# Altium schematic symbol library 19-Resistors 电阻.SchLib: 77 symbols
Pins are listed as number, name and electrical type; pins without a type are passive.

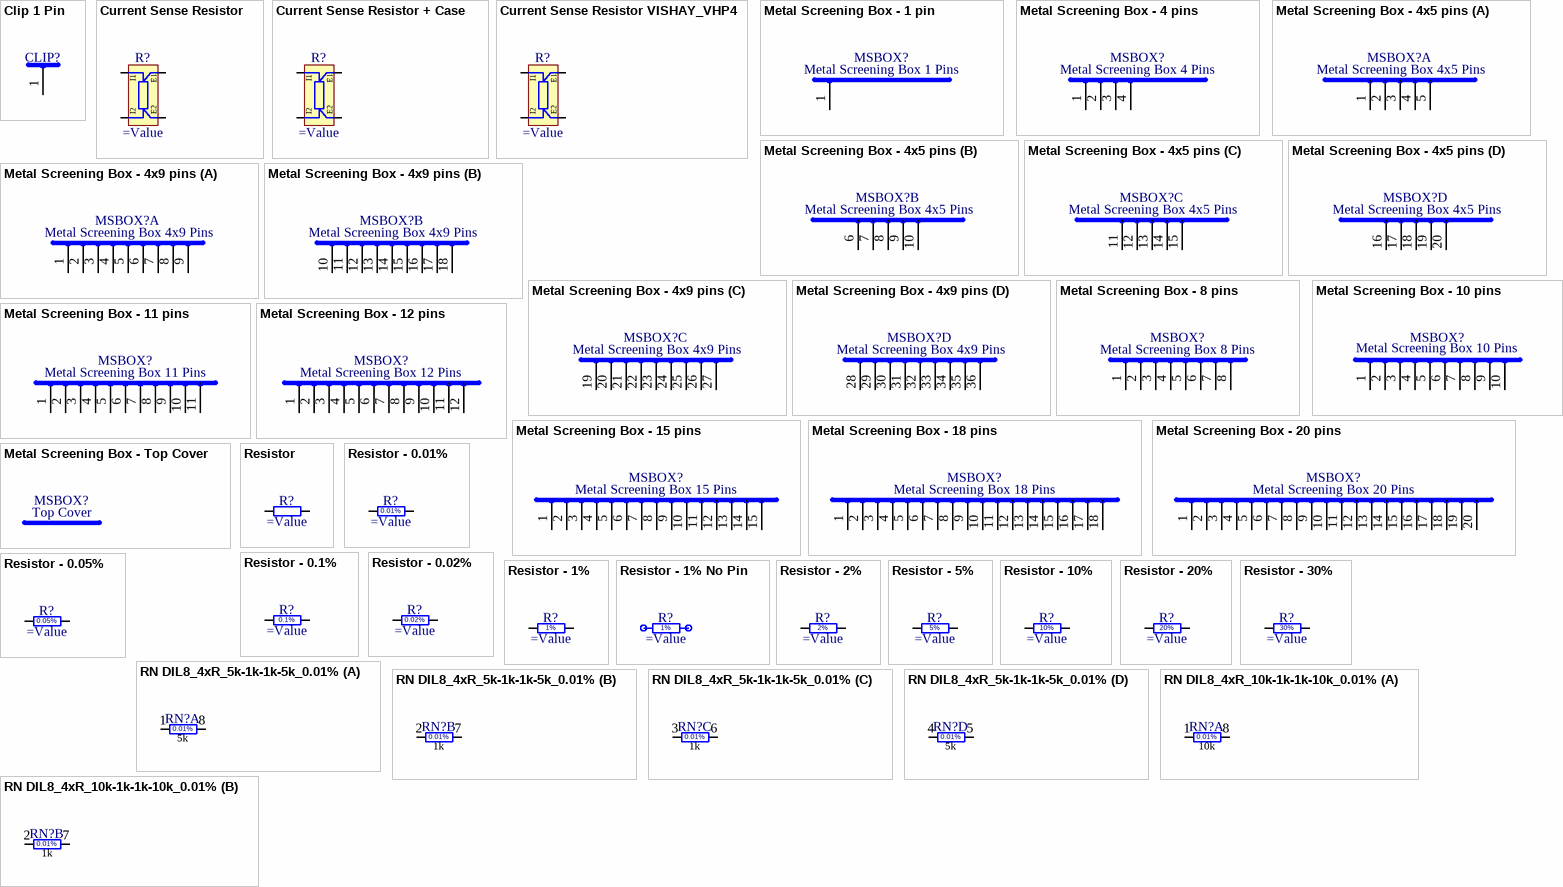
[diagram p0: symbols Clip 1 Pin to RN DIL8_4xR_10k-1k-1k-10k_0.01%]

## Clip 1 Pin
designator CLIP?  (value not drawn)
Surface Mount Clip for PCB Screening Covers
pins: 1

## Current Sense Resistor
designator R?
Power and Current Sensing Resistor
pins: E1, E2, I1, I2

## Current Sense Resistor + Case
designator R?
Power and Current Sensing Resistor
pins: 1 CASE hidden, E1, E2, I1, I2

## Current Sense Resistor VISHAY_VHP4
designator R?
Power and Current Sensing Resistor - 0.1%
pins: E1, E2, I1, I2

## Metal Screening Box - 1 pin
designator MSBOX?, comment Metal Screening Box 1 Pins
Metal Screening Box 1 Pin
pins: 1

## Metal Screening Box - 4 pins
designator MSBOX?, comment Metal Screening Box 4 Pins
pins: 1, 2, 3, 4

## Metal Screening Box - 4x5 pins
designator MSBOX?, comment Metal Screening Box 4x5 Pins
Metal Screening Box 20 (4x5) Pins
part A pins: 1, 2, 3, 4, 5
part B pins: 6, 7, 8, 9, 10
part C pins: 11, 12, 13, 14, 15
part D pins: 16, 17, 18, 19, 20

## Metal Screening Box - 4x9 pins
designator MSBOX?, comment Metal Screening Box 4x9 Pins
Metal Screening Box 36 (4x9) Pins
part A pins: 1, 2, 3, 4, 5, 6, 7, 8, 9
part B pins: 10, 11, 12, 13, 14, 15, 16, 17, 18
part C pins: 19, 20, 21, 22, 23, 24, 25, 26, 27
part D pins: 28, 29, 30, 31, 32, 33, 34, 35, 36

## Metal Screening Box - 8 pins
designator MSBOX?, comment Metal Screening Box 8 Pins
pins: 1, 2, 3, 4, 5, 6, 7, 8

## Metal Screening Box - 10 pins
designator MSBOX?, comment Metal Screening Box 10 Pins
pins: 1, 2, 3, 4, 5, 6, 7, 8, 9, 10

## Metal Screening Box - 11 pins
designator MSBOX?, comment Metal Screening Box 11 Pins
pins: 1, 2, 3, 4, 5, 6, 7, 8, 9, 10, 11

## Metal Screening Box - 12 pins
designator MSBOX?, comment Metal Screening Box 12 Pins
pins: 1, 2, 3, 4, 5, 6, 7, 8, 9, 10, 11, 12

## Metal Screening Box - 15 pins
designator MSBOX?, comment Metal Screening Box 15 Pins
pins: 1, 2, 3, 4, 5, 6, 7, 8, 9, 10, 11, 12, 13, 14, 15

## Metal Screening Box - 18 pins
designator MSBOX?, comment Metal Screening Box 18 Pins
pins: 1, 2, 3, 4, 5, 6, 7, 8, 9, 10, 11, 12, 13, 14, 15, 16, 17, 18

## Metal Screening Box - 20 pins
designator MSBOX?, comment Metal Screening Box 20 Pins
pins: 1, 2, 3, 4, 5, 6, 7, 8, 9, 10, 11, 12, 13, 14, 15, 16, 17, 18, 19, 20

## Metal Screening Box - Top Cover
designator MSBOX?, comment Top Cover
Metal Screening Box - Top Cover 0 Pin

## Resistor
designator R?
Resistor
pins: 1, 2

## Resistor - 0.01%
designator R?
Resistor - 0.01%
pins: 1, 2
text: 0.01%

## Resistor - 0.1%
designator R?
Resistor - 0.1%
pins: 1, 2
text: 0.1%

## Resistor - 0.02%
designator R?
Resistor - 0.02%
pins: 1, 2
text: 0.02%

## Resistor - 0.05%
designator R?
Resistor - 0.05%
pins: 1, 2
text: 0.05%

## Resistor - 1%
designator R?
Resistor - 1%
pins: 1, 2
text: 1%

## Resistor - 1% No Pin
designator R?
Resistor - 1% No Pin
text: 1%

## Resistor - 2%
designator R?
Resistor - 2%
pins: 1, 2
text: 2%

## Resistor - 5%
designator R?
Resistor - 5%
pins: 1, 2
text: 5%

## Resistor - 10%
designator R?
Resistor - 10%
pins: 1, 2
text: 10%

## Resistor - 20%
designator R?
Resistor - 20%
pins: 1, 2
text: 20%

## Resistor - 30%
designator R?
Resistor - 30%
pins: 1, 2
text: 30%

## RN DIL8_4xR_5k-1k-1k-5k_0.01%
designator RN?
DIL8 Resistor Network 4 Resistors 5k-1k-1k-5k 0.01%
part A pins: 1, 8
part B pins: 2, 7
part C pins: 3, 6
part D pins: 4, 5
part A text: 0.01%; 5k
part B text: 0.01%; 1k
part C text: 0.01%; 1k
part D text: 0.01%; 5k

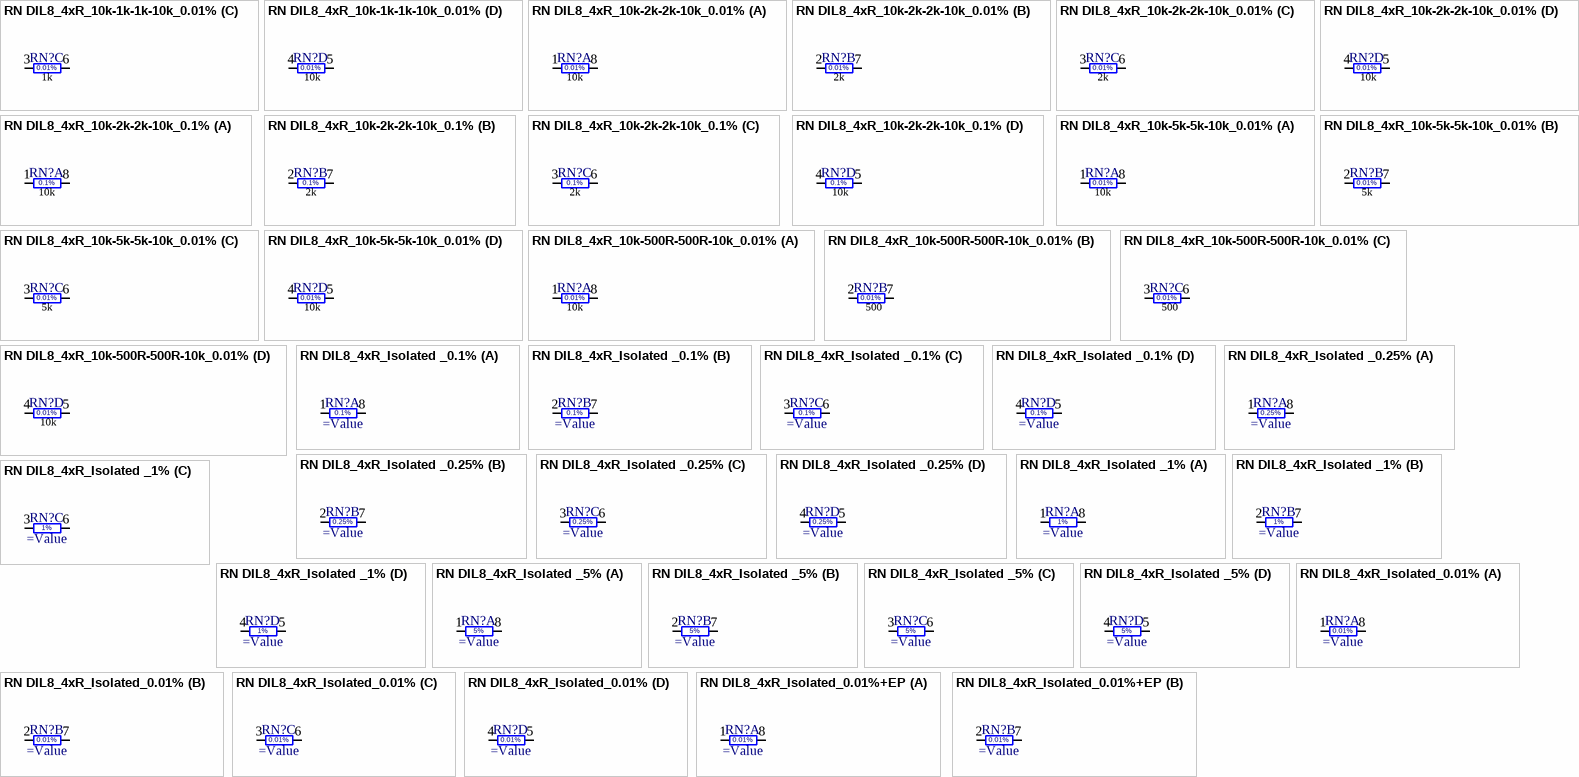
[diagram p1: symbols RN DIL8_4xR_10k-1k-1k-10k_0.01% to RN DIL8_4xR_Isolated_0.01%+EP]

## RN DIL8_4xR_10k-1k-1k-10k_0.01%
designator RN?
DIL8 Resistor Network 4 Resistors 4xR 10k-1k-1k-10k 0.01%
part A pins: 1, 8
part B pins: 2, 7
part C pins: 3, 6
part D pins: 4, 5
part A text: 0.01%; 10k
part B text: 0.01%; 1k
part C text: 0.01%; 1k
part D text: 0.01%; 10k

## RN DIL8_4xR_10k-2k-2k-10k_0.01%
designator RN?
DIL8 Resistor Network 4 Resistors 10k-2k-2k-10k 0.01%
part A pins: 1, 8
part B pins: 2, 7
part C pins: 3, 6
part D pins: 4, 5
part A text: 0.01%; 10k
part B text: 0.01%; 2k
part C text: 0.01%; 2k
part D text: 0.01%; 10k

## RN DIL8_4xR_10k-2k-2k-10k_0.1%
designator RN?
DIL8 Resistor Network 4 Resistors 10k-2k-2k-10k 0.1%
part A pins: 1, 8
part B pins: 2, 7
part C pins: 3, 6
part D pins: 4, 5
part A text: 0.1%; 10k
part B text: 0.1%; 2k
part C text: 0.1%; 2k
part D text: 0.1%; 10k

## RN DIL8_4xR_10k-5k-5k-10k_0.01%
designator RN?
DIL8 Resistor Network 4 Resistors 10k-5k-5k-10k 0.01%
part A pins: 1, 8
part B pins: 2, 7
part C pins: 3, 6
part D pins: 4, 5
part A text: 0.01%; 10k
part B text: 0.01%; 5k
part C text: 0.01%; 5k
part D text: 0.01%; 10k

## RN DIL8_4xR_10k-500R-500R-10k_0.01%
designator RN?
DIL8 Resistor Network 4 Resistors 10k-500R-500R-10k 0.01%
part A pins: 1, 8
part B pins: 2, 7
part C pins: 3, 6
part D pins: 4, 5
part A text: 0.01%; 10k
part B text: 0.01%; 500
part C text: 0.01%; 500
part D text: 0.01%; 10k

## RN DIL8_4xR_Isolated _0.1%
designator RN?
DIL8 Resistor Network 4 Isolated Resistor 0.1%
part A pins: 1, 8
part B pins: 2, 7
part C pins: 3, 6
part D pins: 4, 5
part A text: 0.1%
part B text: 0.1%
part C text: 0.1%
part D text: 0.1%

## RN DIL8_4xR_Isolated _0.25%
designator RN?
DIL8 Resistor Network 4 Isolated Resistor 0.25%
part A pins: 1, 8
part B pins: 2, 7
part C pins: 3, 6
part D pins: 4, 5
part A text: 0.25%
part B text: 0.25%
part C text: 0.25%
part D text: 0.25%

## RN DIL8_4xR_Isolated _1%
designator RN?
DIL8 Resistor Network 4 Isolated Resistor 1%
part A pins: 1, 8
part B pins: 2, 7
part C pins: 3, 6
part D pins: 4, 5
part A text: 1%
part B text: 1%
part C text: 1%
part D text: 1%

## RN DIL8_4xR_Isolated _5%
designator RN?
DIL8 Resistor Network 4 Isolated Resistor 5%
part A pins: 1, 8
part B pins: 2, 7
part C pins: 3, 6
part D pins: 4, 5
part A text: 5%
part B text: 5%
part C text: 5%
part D text: 5%

## RN DIL8_4xR_Isolated_0.01%
designator RN?
DIL8 Resistor Network 4 Isolated Resistor 0.01%
part A pins: 1, 8
part B pins: 2, 7
part C pins: 3, 6
part D pins: 4, 5
part A text: 0.01%
part B text: 0.01%
part C text: 0.01%
part D text: 0.01%

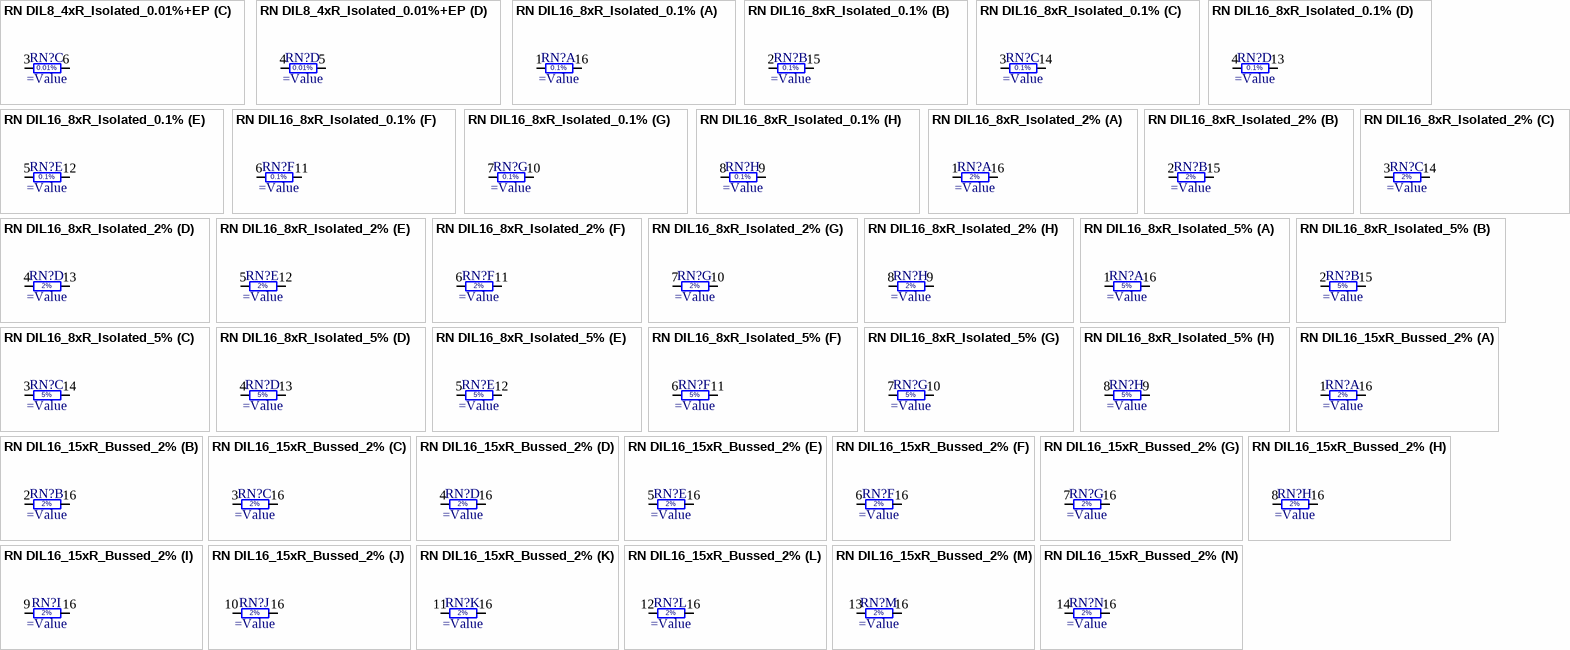
[diagram p2: symbols RN DIL8_4xR_Isolated_0.01%+EP to RN DIL16_15xR_Bussed_2%]

## RN DIL8_4xR_Isolated_0.01%+EP
designator RN?
DIL8 Resistor Network 4 Isolated Resistor 0.01% + Exposed Pad
pins on every part: 9 EP (power) hidden to GND "Exposed Pad"
part A pins: 1, 8
part B pins: 2, 7
part C pins: 3, 6
part D pins: 4, 5
part A text: 0.01%
part B text: 0.01%
part C text: 0.01%
part D text: 0.01%

## RN DIL16_8xR_Isolated_0.1%
designator RN?
DIL16 Resistor Network 8 Isolated Resistor 0.1%
part A pins: 1, 16
part B pins: 2, 15
part C pins: 3, 14
part D pins: 4, 13
part E pins: 5, 12
part F pins: 6, 11
part G pins: 7, 10
part H pins: 8, 9
part A text: 0.1%
part B text: 0.1%
part C text: 0.1%
part D text: 0.1%
part E text: 0.1%
part F text: 0.1%
part G text: 0.1%
part H text: 0.1%

## RN DIL16_8xR_Isolated_2%
designator RN?
DIL16 Resistor Network 8 Isolated Resistor 2%
part A pins: 1, 16
part B pins: 2, 15
part C pins: 3, 14
part D pins: 4, 13
part E pins: 5, 12
part F pins: 6, 11
part G pins: 7, 10
part H pins: 8, 9
part A text: 2%
part B text: 2%
part C text: 2%
part D text: 2%
part E text: 2%
part F text: 2%
part G text: 2%
part H text: 2%

## RN DIL16_8xR_Isolated_5%
designator RN?
DIL16 Resistor Network 8 Isolated Resistor 5%
part A pins: 1, 16
part B pins: 2, 15
part C pins: 3, 14
part D pins: 4, 13
part E pins: 5, 12
part F pins: 6, 11
part G pins: 7, 10
part H pins: 8, 9
part A text: 5%
part B text: 5%
part C text: 5%
part D text: 5%
part E text: 5%
part F text: 5%
part G text: 5%
part H text: 5%

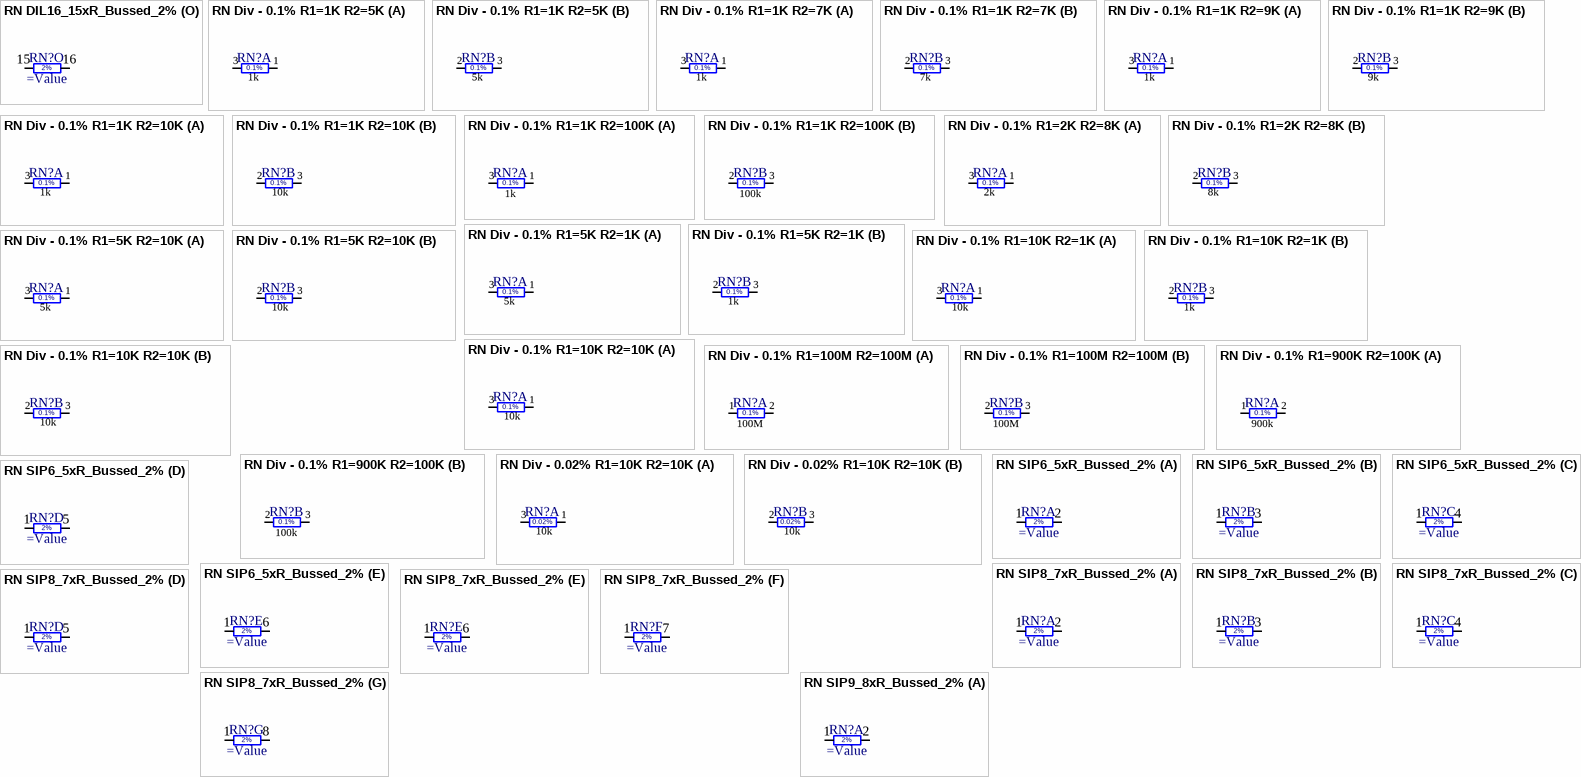
[diagram p3: symbols RN DIL16_15xR_Bussed_2% to RN SIP9_8xR_Bussed_2%]

## RN DIL16_15xR_Bussed_2%
designator RN?
DIL16 Resistor Network 15 Bussed Resistor 2%
pins on every part: 16
part A pins: 1
part B pins: 2
part C pins: 3
part D pins: 4
part E pins: 5
part F pins: 6
part G pins: 7
part H pins: 8
part I pins: 9
part J pins: 10
part K pins: 11
part L pins: 12
part M pins: 13
part N pins: 14
part O pins: 15
part A text: 2%
part B text: 2%
part C text: 2%
part D text: 2%
part E text: 2%
part F text: 2%
part G text: 2%
part H text: 2%
part I text: 2%
part J text: 2%
part K text: 2%
part L text: 2%
part M text: 2%
part N text: 2%
part O text: 2%

## RN Div - 0.1% R1=1K R2=5K
designator RN?
Resistor Network Divider - 0.1%
part A pins: 1, 3
part B pins: 2, 3
part A text: 0.1%; 1k
part B text: 0.1%; 5k

## RN Div - 0.1% R1=1K R2=7K
designator RN?
Resistor Network Divider - 0.1%
part A pins: 1, 3
part B pins: 2, 3
part A text: 0.1%; 1k
part B text: 0.1%; 7k

## RN Div - 0.1% R1=1K R2=9K
designator RN?
Resistor Network Divider - 0.1%
part A pins: 1, 3
part B pins: 2, 3
part A text: 0.1%; 1k
part B text: 0.1%; 9k

## RN Div - 0.1% R1=1K R2=10K
designator RN?
Resistor Network Divider - 0.1%
part A pins: 1, 3
part B pins: 2, 3
part A text: 0.1%; 1k
part B text: 0.1%; 10k

## RN Div - 0.1% R1=1K R2=100K
designator RN?
Resistor Network Divider - 0.1%
part A pins: 1, 3
part B pins: 2, 3
part A text: 0.1%; 1k
part B text: 0.1%; 100k

## RN Div - 0.1% R1=2K R2=8K
designator RN?
Resistor Network Divider - 0.1%
part A pins: 1, 3
part B pins: 2, 3
part A text: 0.1%; 2k
part B text: 0.1%; 8k

## RN Div - 0.1% R1=5K R2=1K
designator RN?
Resistor Network Divider - 0.1%
part A pins: 1, 3
part B pins: 2, 3
part A text: 0.1%; 5k
part B text: 0.1%; 1k

## RN Div - 0.1% R1=5K R2=10K
designator RN?
Resistor Network Divider - 0.1%
part A pins: 1, 3
part B pins: 2, 3
part A text: 0.1%; 5k
part B text: 0.1%; 10k

## RN Div - 0.1% R1=10K R2=1K
designator RN?
Resistor Network Divider - 0.1%
part A pins: 1, 3
part B pins: 2, 3
part A text: 0.1%; 10k
part B text: 0.1%; 1k

## RN Div - 0.1% R1=10K R2=10K
designator RN?
Resistor Network Divider - 0.1%
part A pins: 1, 3
part B pins: 2, 3
part A text: 0.1%; 10k
part B text: 0.1%; 10k

## RN Div - 0.1% R1=100M R2=100M
designator RN?
Resistor Network Divider - 0.1%
part A pins: 1, 2
part B pins: 2, 3
part A text: 0.1%; 100M
part B text: 0.1%; 100M

## RN Div - 0.1% R1=900K R2=100K
designator RN?
Resistor Network Divider - 0.1%
part A pins: 1, 2
part B pins: 2, 3
part A text: 0.1%; 900k
part B text: 0.1%; 100k

## RN Div - 0.02% R1=10K R2=10K
designator RN?
Resistor Network Divider - 0.02%
part A pins: 1, 3
part B pins: 2, 3
part A text: 0.02%; 10k
part B text: 0.02%; 10k

## RN SIP6_5xR_Bussed_2%
designator RN?
SIP6 Resistor Network 5 Bussed Resistors 2%
pins on every part: 1 (power)
part A pins: 2
part B pins: 3
part C pins: 4
part D pins: 5
part E pins: 6
part A text: 2%
part B text: 2%
part C text: 2%
part D text: 2%
part E text: 2%

## RN SIP8_7xR_Bussed_2%
designator RN?
SIP8 Resistor Network 7 Bussed Resistors 2%
pins on every part: 1 (power)
part A pins: 2
part B pins: 3
part C pins: 4
part D pins: 5
part E pins: 6
part F pins: 7
part G pins: 8
part A text: 2%
part B text: 2%
part C text: 2%
part D text: 2%
part E text: 2%
part F text: 2%
part G text: 2%

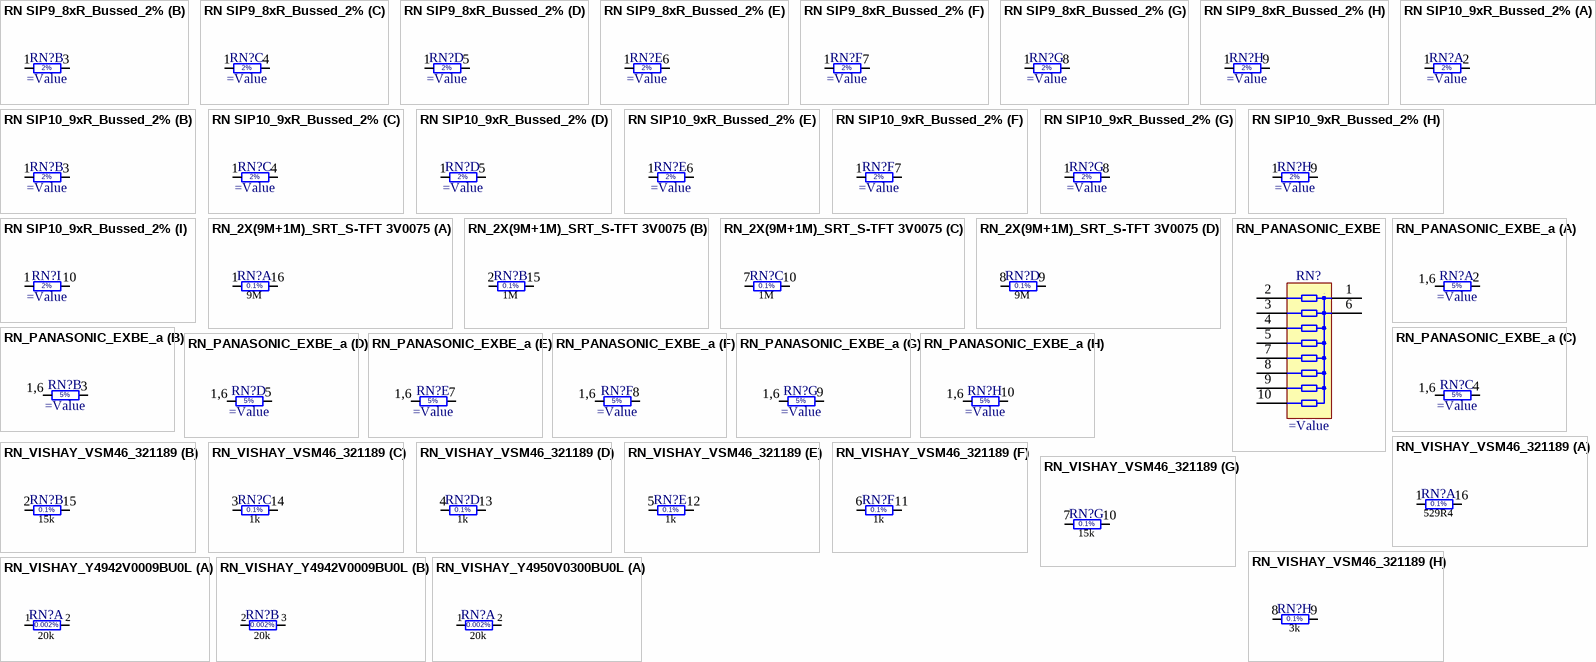
[diagram p4: symbols RN SIP9_8xR_Bussed_2% to RN_VISHAY_Y4950V0300BU0L]

## RN SIP9_8xR_Bussed_2%
designator RN?
SIP9 Resistor Network 8 Bussed Resistors 2%
pins on every part: 1 (power)
part A pins: 2
part B pins: 3
part C pins: 4
part D pins: 5
part E pins: 6
part F pins: 7
part G pins: 8
part H pins: 9
part A text: 2%
part B text: 2%
part C text: 2%
part D text: 2%
part E text: 2%
part F text: 2%
part G text: 2%
part H text: 2%

## RN SIP10_9xR_Bussed_2%
designator RN?
SIP10 Resistor Network 9 Bussed Resistors 2%
pins on every part: 1 (power)
part A pins: 2
part B pins: 3
part C pins: 4
part D pins: 5
part E pins: 6
part F pins: 7
part G pins: 8
part H pins: 9
part I pins: 10
part A text: 2%
part B text: 2%
part C text: 2%
part D text: 2%
part E text: 2%
part F text: 2%
part G text: 2%
part H text: 2%
part I text: 2%

## RN_2X(9M+1M)_SRT_S-TFT 3V0075
designator RN?
Surface Mount (SO16), 2X(9M+1M) Precision Voltage Divider (Two Divider per Device), SCN Serie
part A pins: 1, 16
part B pins: 2, 15
part C pins: 7, 10
part D pins: 8, 9
part A text: 0.1%; 9M
part B text: 0.1%; 1M
part C text: 0.1%; 1M
part D text: 0.1%; 9M

## RN_PANASONIC_EXBE
designator RN?
Bussed 8 Resistors for Pull Up/Down Circuits
pins: 1 (power), 2, 3, 4, 5, 6 (power), 7, 8, 9, 10

## RN_PANASONIC_EXBE_a
designator RN?
Bussed 8 Resistors for Pull Up/Down Circuits
pins on every part: 16 (power)
part A pins: 2
part B pins: 3
part C pins: 4
part D pins: 5
part E pins: 7
part F pins: 8
part G pins: 9
part H pins: 10
part A text: 1,6; 5%
part B text: 1,6; 5%
part C text: 1,6; 5%
part D text: 1,6; 5%
part E text: 1,6; 5%
part F text: 1,6; 5%
part G text: 1,6; 5%
part H text: 1,6; 5%

## RN_VISHAY_VSM46_321189
designator RN?
Bulk Metal® Foil Technology Surface Mount Hermetic Resistor Networks (8 Isolated Resistors), VSM46 Series
part A pins: 1, 16
part B pins: 2, 15
part C pins: 3, 14
part D pins: 4, 13
part E pins: 5, 12
part F pins: 6, 11
part G pins: 7, 10
part H pins: 8, 9
part A text: 0.1%; 529R4
part B text: 0.1%; 15k
part C text: 0.1%; 1k
part D text: 0.1%; 1k
part E text: 0.1%; 1k
part F text: 0.1%; 1k
part G text: 0.1%; 15k
part H text: 0.1%; 3k

## RN_VISHAY_Y4942V0009BU0L
designator RN?
Resistor Network Divider - 20k 0.002%
part A pins: 1, 2
part B pins: 2, 3
part A text: 0.002%; 20k
part B text: 0.002%; 20k

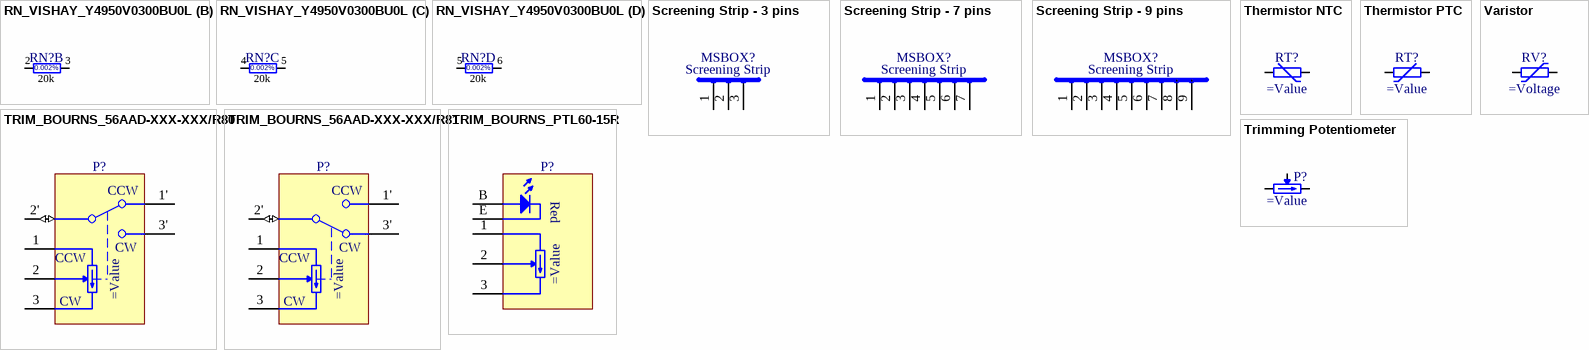
[diagram p5: symbols RN_VISHAY_Y4950V0300BU0L to Varistor]

## RN_VISHAY_Y4950V0300BU0L
designator RN?
Resistor Network Divider - 20k 0.002%
part A pins: 1, 2
part B pins: 2, 3
part C pins: 4, 5
part D pins: 5, 6
part A text: 0.002%; 20k
part B text: 0.002%; 20k
part C text: 0.002%; 20k
part D text: 0.002%; 20k

## Screening Strip - 3 pins
designator MSBOX?, comment Screening Strip
Screening Strip - 3 pins
pins: 1, 2, 3

## Screening Strip - 7 pins
designator MSBOX?, comment Screening Strip
Screening Strip 7 Pins
pins: 1, 2, 3, 4, 5, 6, 7

## Screening Strip - 9 pins
designator MSBOX?, comment Screening Strip
Screening Strip 9 Pins
pins: 1, 2, 3, 4, 5, 6, 7, 8, 9

## Thermistor NTC
designator RT?
Thermistor NTC (Negative Temperature Coefficient)
pins: 1, 2

## Thermistor PTC
designator RT?
Thermistor NTC (Positive Temperature Coefficient)
pins: 1, 2

## TRIM_BOURNS_56AAD-XXX-XXX/R80
designator P?
Panel Control Trimming Potentiometer with Rotary (Clock Wise) SPDT Switch, Serie 56
pins: 1 CCW, 1' CCW, 2 W, 2' C (io), 3 CW, 3' CW

## TRIM_BOURNS_56AAD-XXX-XXX/R81
designator P?
Panel Control Trimming Potentiometer with Rotary (Counter Clock Wise) SPDT Switch, Serie 56
pins: 1 CCW, 1' CCW, 2 W, 2' C (io), 3 CW, 3' CW

## TRIM_BOURNS_PTL60-15R
designator P?
Slide Potentiometer with Red LED, 60mm Travel Length, 15mm Lever Length, Serie PTL
pins: 1 CCW, 2 W, 3 CW, 4 GROUND hidden, B, E, L DT hidden
text: Red

## Trimming Potentiometer
designator P?
Trimming Potentiometer
pins: 1 CCW, 2 W, 3 CW

## Varistor
designator RV?
Varistor
pins: 1, 2